# EAGLE library part ATMEGA644PA (library PP_DigitalIC)
Manufacturer Part #: ATmega644PA Manufacturer: Atmel Description: 8-bit Microcontrollers - MCU 64K Flash 2K EEPROM 4K SRAM 32 IO Pins
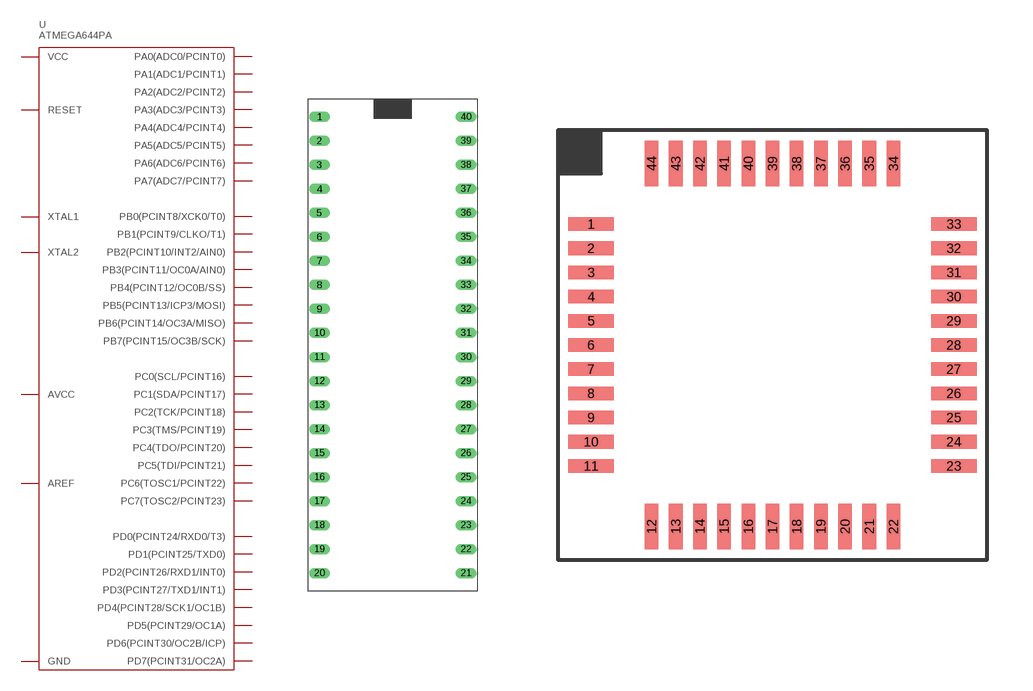
[diagram p13: symbol with the pads of ATMEGA644PA_PDIP-40; footprints ATMEGA644PA_PDIP-40, ATMEGA644PA_TQFP-44]

Designator prefix U

## ATMEGA644PA-PU  [ATMEGA644PA_PDIP-40]
1  PB0(PCINT8/XCK0/T0)
2  PB1(PCINT9/CLKO/T1)
3  PB2(PCINT10/INT2/AIN0)
4  PB3(PCINT11/OC0A/AIN0)
5  PB4(PCINT12/OC0B/SS)
6  PB5(PCINT13/ICP3/MOSI)
7  PB6(PCINT14/OC3A/MISO)
8  PB7(PCINT15/OC3B/SCK)
9  RESET
10  VCC
11  GND
12  XTAL2
13  XTAL1
14  PD0(PCINT24/RXD0/T3)
15  PD1(PCINT25/TXD0)
16  PD2(PCINT26/RXD1/INT0)
17  PD3(PCINT27/TXD1/INT1)
18  PD4(PCINT28/SCK1/OC1B)
19  PD5(PCINT29/OC1A)
20  PD6(PCINT30/OC2B/ICP)
21  PD7(PCINT31/OC2A)
22  PC0(SCL/PCINT16)
23  PC1(SDA/PCINT17)
24  PC2(TCK/PCINT18)
25  PC3(TMS/PCINT19)
26  PC4(TDO/PCINT20)
27  PC5(TDI/PCINT21)
28  PC6(TOSC1/PCINT22)
29  PC7(TOSC2/PCINT23)
30  AVCC
31  GND
32  AREF
33  PA7(ADC7/PCINT7)
34  PA6(ADC6/PCINT6)
35  PA5(ADC5/PCINT5)
36  PA4(ADC4/PCINT4)
37  PA3(ADC3/PCINT3)
38  PA2(ADC2/PCINT2)
39  PA1(ADC1/PCINT1)
40  PA0(ADC0/PCINT0)

## ATMEGA644PA-AU  [ATMEGA644PA_TQFP-44]
1  PB5(PCINT13/ICP3/MOSI)
2  PB6(PCINT14/OC3A/MISO)
3  PB7(PCINT15/OC3B/SCK)
4  RESET
5  VCC
6  GND
7  XTAL2
8  XTAL1
9  PD0(PCINT24/RXD0/T3)
10  PD1(PCINT25/TXD0)
11  PD2(PCINT26/RXD1/INT0)
12  PD3(PCINT27/TXD1/INT1)
13  PD4(PCINT28/SCK1/OC1B)
14  PD5(PCINT29/OC1A)
15  PD6(PCINT30/OC2B/ICP)
16  PD7(PCINT31/OC2A)
17  VCC
18  GND
19  PC0(SCL/PCINT16)
20  PC1(SDA/PCINT17)
21  PC2(TCK/PCINT18)
22  PC3(TMS/PCINT19)
23  PC4(TDO/PCINT20)
24  PC5(TDI/PCINT21)
25  PC6(TOSC1/PCINT22)
26  PC7(TOSC2/PCINT23)
27  AVCC
28  GND
29  AREF
30  PA7(ADC7/PCINT7)
31  PA6(ADC6/PCINT6)
32  PA5(ADC5/PCINT5)
33  PA4(ADC4/PCINT4)
34  PA3(ADC3/PCINT3)
35  PA2(ADC2/PCINT2)
36  PA1(ADC1/PCINT1)
37  PA0(ADC0/PCINT0)
38  VCC
39  GND
40  PB0(PCINT8/XCK0/T0)
41  PB1(PCINT9/CLKO/T1)
42  PB2(PCINT10/INT2/AIN0)
43  PB3(PCINT11/OC0A/AIN0)
44  PB4(PCINT12/OC0B/SS)

## Footprint ATMEGA644PA_PDIP-40 (pad centres in mm)
drill 0.6 long: 1 -7.75,24.13; 2 -7.75,21.59; 3 -7.75,19.05; 4 -7.75,16.51; 5 -7.75,13.97; 6 -7.75,11.43; 7 -7.75,8.89; 8 -7.75,6.35; 9 -7.75,3.81; 10 -7.75,1.27; 11 -7.75,-1.27; 12 -7.75,-3.81; 13 -7.75,-6.35; 14 -7.75,-8.89; 15 -7.75,-11.43; 16 -7.75,-13.97; 17 -7.75,-16.51; 18 -7.75,-19.05; 19 -7.75,-21.59; 20 -7.75,-24.13; 21 7.75,-24.13; 22 7.75,-21.59; 23 7.75,-19.05; 24 7.75,-16.51; 25 7.75,-13.97; 26 7.75,-11.43; 27 7.75,-8.89; 28 7.75,-6.35; 29 7.75,-3.81; 30 7.75,-1.27; 31 7.75,1.27; 32 7.75,3.81; 33 7.75,6.35; 34 7.75,8.89; 35 7.75,11.43; 36 7.75,13.97; 37 7.75,16.51; 38 7.75,19.05; 39 7.75,21.59; 40 7.75,24.13

## Footprint ATMEGA644PA_TQFP-44 (pad centres in mm)
smd 1.5 x 0.45: 1 -6,4; 2 -6,3.2; 3 -6,2.4; 4 -6,1.6; 5 -6,0.8; 6 -6,0; 7 -6,-0.8; 8 -6,-1.6; 9 -6,-2.4; 10 -6,-3.2; 11 -6,-4; 23 6,-4; 24 6,-3.2; 25 6,-2.4; 26 6,-1.6; 27 6,-0.8; 28 6,0; 29 6,0.8; 30 6,1.6; 31 6,2.4; 32 6,3.2; 33 6,4
smd 0.45 x 1.5: 12 -4,-6; 13 -3.2,-6; 14 -2.4,-6; 15 -1.6,-6; 16 -0.8,-6; 17 0,-6; 18 0.8,-6; 19 1.6,-6; 20 2.4,-6; 21 3.2,-6; 22 4,-6; 34 4,6; 35 3.2,6; 36 2.4,6; 37 1.6,6; 38 0.8,6; 39 0,6; 40 -0.8,6; 41 -1.6,6; 42 -2.4,6; 43 -3.2,6; 44 -4,6